# Altium footprint library PCB - OPTOISOLATOR - TOSHIBA SO-6 11-4L1.PcbLib: 1 footprints
Each footprint in its own frame and in the unit in brackets; x right, y up, seen from the top. Pads: shape width x height; smd on the part's side, far side on the other; paste and mask are expansions set on the pad; w line width, h text height; cw(c..) or ccw(c..) is an arc to the next point about the centre after c.
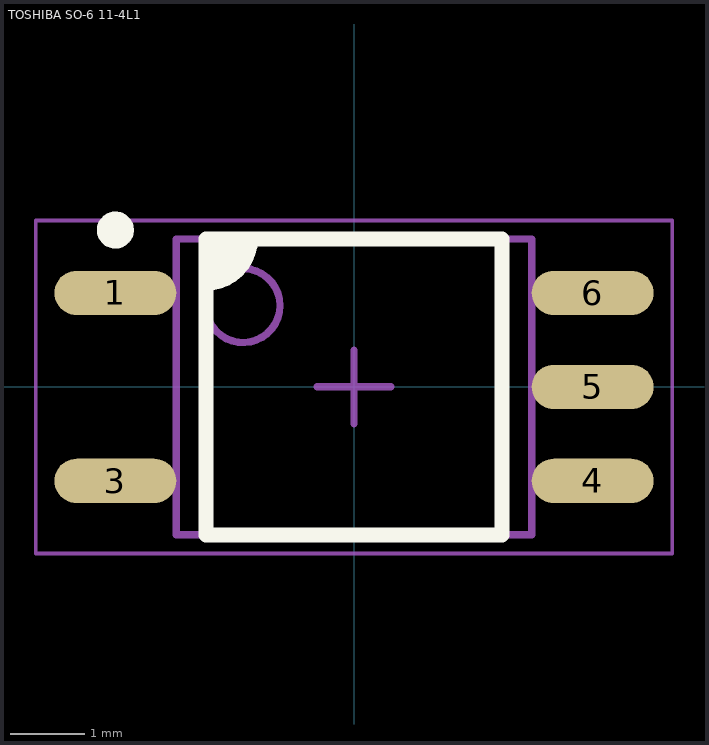
[diagram p0: the footprint, top view; thin cyan lines are the x and y axes]

## TOSHIBA SO-6 11-4L1 [mm] "SO, 6-Leads, Body 3.75x4.60mm, Pitch 1.27mm, IPC Medium Density"
height 2.2
pads (5):
  oval 1.65x0.6 smd: 1(-3.225,1.27) 3(-3.225,-1.27) 4(3.225,-1.27) 5(3.225,0) 6(3.225,1.27)
Top Overlay:
  circle w0.25: c-3.225,2.12 r0.125
  region: -2,2 -1.4,2 -1.4,1.881 -1.491,1.66 -1.66,1.491 -1.881,1.4 -2,1.4
  lines w0.2: -2,1.4 ccw(c-2,2) -1.4,2 ; -2,-2 -2,2 2,2 2,-2 -2,-2
Top Assembly:
  circle w0.1: c-1.5,1.1 r0.5
  lines w0.1: -0.5,0 0.5,0 ; 0,-0.5 0,0.5 ; -2.4,-2 2.4,-2 2.4,2 -2.4,2 -2.4,-2
Top Courtyard (Mech15):
  lines w0.05: -4.3,-2.25 4.3,-2.25 4.3,2.25 -4.3,2.25 -4.3,-2.25
3D body "Toshiba - SO-6 11-4L1.step": height 2.2, standoff 0, extent -3.51,-1.975 3.51,1.975